# EAGLE library part ADXRS450 (library custom_parts)
ADXRS450 gyroscope all information from http://www.analog.com/static/imported-files/data_sheets/ADXRS450.pdf
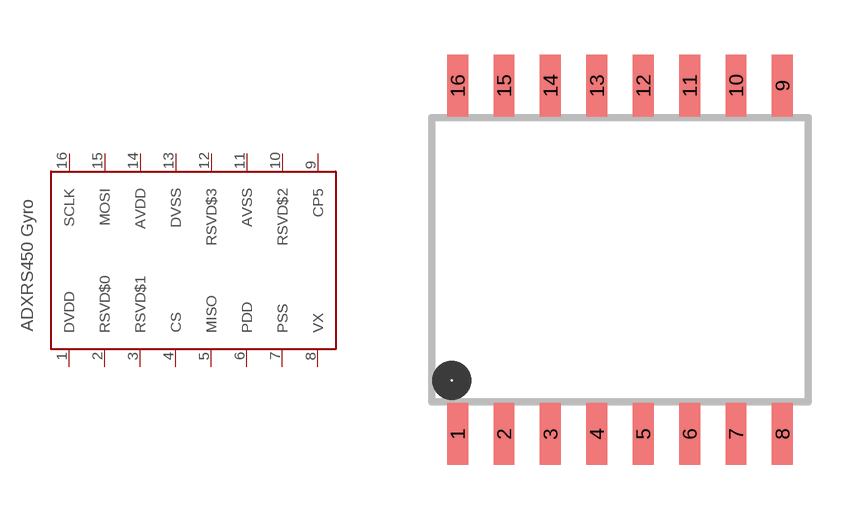
[diagram p4: symbol with the pads of SOIC_CAV; footprint SOIC_CAV]

Designator prefix -

## ADXRS450  [SOIC_CAV]
1  DVDD
2  RSVD$0
3  RSVD$1
4  CS
5  MISO
6  PDD
7  PSS
8  VX
9  CP5
10  RSVD$2
11  AVSS
12  RSVD$3
13  DVSS
14  AVDD
15  MOSI
16  SCLK

## Footprint SOIC_CAV (pad centres in mm)
SMALL OUTLINE INTEGRATED CIRCUIT Plastic Cavity Package
smd 0.572 x 1.691: 1 -4.445,-4.771; 2 -3.175,-4.771; 3 -1.905,-4.771; 4 -0.635,-4.771; 5 0.635,-4.771; 6 1.905,-4.771; 7 3.175,-4.771; 8 4.445,-4.771; 9 4.445,4.771; 10 3.175,4.771; 11 1.905,4.771; 12 0.635,4.771; 13 -0.635,4.771; 14 -1.905,4.771; 15 -3.175,4.771; 16 -4.445,4.771